# Altium footprint library XBEE.PcbLib: 1 footprints
Each footprint in its own frame and in the unit in brackets; x right, y up, seen from the top. Pads: shape width x height; smd on the part's side, far side on the other; paste and mask are expansions set on the pad; w line width, h text height; cw(c..) or ccw(c..) is an arc to the next point about the centre after c.
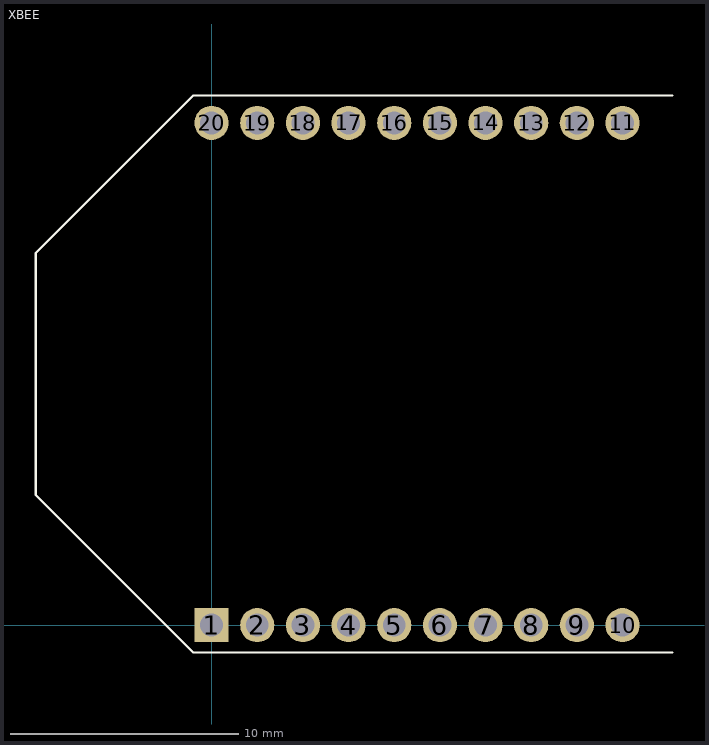
[diagram p0: the footprint, top view; thin cyan lines are the x and y axes]

## XBEE [mm]
pads (20):
  rect 1.5x1.5 hole 1: 1(0,0)
  round 1.5 hole 1: 2(2,0) 3(4,0) 4(6,0) 5(8,0) 6(10,0) 7(12,0) 8(14,0) 9(16,0) 10(18,0) 11(18,22) 12(16,22) 13(14,22) 14(12,22) 15(10,22) 16(8,22) 17(6,22) 18(4,22) 19(2,22) 20(0,22)
Top Overlay:
  lines w0.1: 20.175,-1.2 -0.8,-1.2 -7.7,5.7 -7.7,6.5 -7.7,15.5 -7.7,16.3 -0.8,23.2 20.175,23.2
3D body: height 3.5, standoff -4, extent -7.725,-1.25 20.175,23.25